# Altium schematic symbol library Audio - Microphones.SchLib: 12 symbols
Pins are listed as number, name and electrical type; pins without a type are passive.

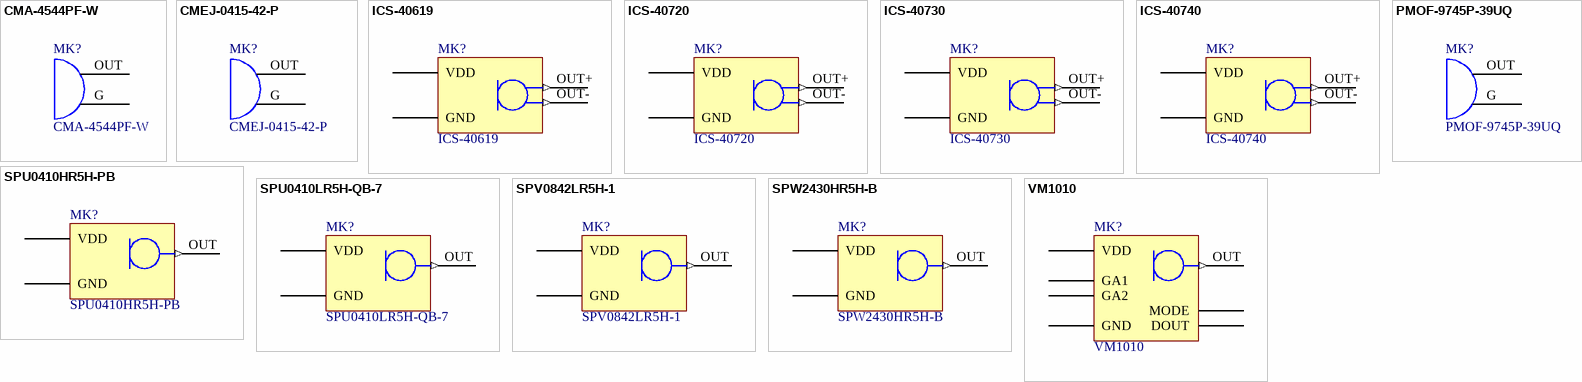
[diagram p0: symbols CMA-4544PF-W to VM1010]

## CMA-4544PF-W
designator MK?
MIC COND ANALOG OMNI -44DB; Manufacturer: CUI Devices; Current - Supply: 500µA; Direction: Omnidirectional; Frequency Range: 20Hz ~ 20kHz; Impedance: 2.2 kOhms; Port Location: Top; Sensitivity: -44dB ±2dB; Shape: Circular; S/N Ratio: 60dB; Voltage Range: 3V ~ 10V; Part Number: CMA-4544PF-W; ComponentLink1Description: Datasheet; ComponentLink1URL: https://www.cuidevices.com/product/resource/digikeypdf/cma-4544pf-w.pdf; ComponentLink2Description: DigiKey Link; ComponentLink2URL: http://digikey.com/product-detail/en/cui-devices/CMA-4544PF-W/102-1721-ND/1869981; Height (Max): 0.183" (4.65mm); LastUpdated: 4/24/2020 12:49:04 AM; Lifecycle Status: Active; Minimum Order: 1; Output Type: Analog; Packaging: Bulk; Part Status: Active; Price: 0.77; Series: -; Size / Dimension: 0.382" Dia (9.70mm); Supplier 1: DigiKey; Supplier Part Number 1: 102-1721-ND; Termination: PC Pins; Type: Electret Condenser
footprint CUI Devices CMA-4544PF-W
pins: G GND, OUT

## CMEJ-0415-42-P
designator MK?
MICROPHONE, 4 MM, ELECTRET CONDE; Manufacturer: CUI Devices; Current - Supply: 500µA; Direction: Omnidirectional; Frequency Range: 100Hz ~ 10kHz; Output Type: Analog; Port Location: Top; Sensitivity: -42dB ±3dB @ 94dB SPL; Shape: Circular; S/N Ratio: 60dB; Voltage - Rated: 2V; Part Number: CMEJ-0415-42-P; ComponentLink1Description: Datasheet; ComponentLink1URL: https://www.cuidevices.com/product/resource/digikeypdf/cmej-0415-42-p.pdf; ComponentLink2Description: DigiKey Link; ComponentLink2URL: http://digikey.com/product-detail/en/cui-devices/CMEJ-0415-42-P/102-6542-ND/10253451; Height (Max): 0.067" (1.70mm); LastUpdated: 4/24/2020 12:49:53 AM; Lifecycle Status: Active; Minimum Order: 1; Packaging: Tray; Part Status: Active; Price: 0.40; Series: CMEJ; Size / Dimension: 0.157" Dia (4.00mm); Supplier 1: DigiKey; Supplier Part Number 1: 102-6542-ND; Termination: PC Pins; Type: Electret Condenser
footprint CUI CMEJ-0415-42-P
pins: G GND, OUT

## ICS-40619
designator MK?
MIC MEMS MULTI-MODE OMNI -38DB; Manufacturer: TDK InvenSense; Current - Supply: 190µA; Direction: Omnidirectional; Frequency Range: 50Hz ~ 20kHz; Output Type: Analog; Port Location: Top; Sensitivity: -38db ±1dB; Shape: Rectangular; S/N Ratio: 67dB; Voltage Range: 1.52V ~ 3.63V; Part Number: ICS-40619; ComponentLink1Description: Datasheet; ComponentLink1URL: https://www.invensense.com/wp-content/uploads/2016/02/ICS-40619-Datasheet.pdf?ref_disty=digikey; ComponentLink2Description: DigiKey Link; ComponentLink2URL: http://digikey.com/product-detail/en/tdk-invensense/ICS-40619/1428-1063-1-ND/6025657; Height (Max): 0.043" (1.10mm); LastUpdated: 4/24/2020 12:45:00 AM; Lifecycle Status: Active; Minimum Order: 1; Packaging: TapeAndReel; Part Status: Active; Price: 0.85; Series: -; Size / Dimension: 0.138" L x 0.104" W (3.50mm x 2.65mm); Supplier 1: DigiKey; Supplier Part Number 1: 1428-1063-1-ND; Termination: Solder Pads; Type: MEMS (Silicon)
footprint TDK ICS-40619
pins: G GND, OUT+ (out), OUT- (out), VDD

## ICS-40720
designator MK?
MICROPHONE MEMS ANALOG OMNI; Manufacturer: TDK InvenSense; Current - Supply: 375µA; Direction: Omnidirectional; Frequency Range: 75Hz ~ 20kHz; Port Location: Bottom; Sensitivity: -38dB ±2dB @ 94dB SPL; Shape: Rectangular; S/N Ratio: 70dB; Voltage Range: 1.5V ~ 3.63V; Part Number: ICS-40720; ComponentLink1Description: Datasheet; ComponentLink1URL: https://www.invensense.com/wp-content/uploads/2015/02/DS-000045-v1.3-ICS-40720.pdf?ref_disty=digikey; ComponentLink2Description: DigiKey Link; ComponentLink2URL: http://digikey.com/product-detail/en/tdk-invensense/ICS-40720/1428-1120-1-ND/6148222; Height (Max): 0.051" (1.30mm); LastUpdated: 4/24/2020 12:44:03 AM; Lifecycle Status: Active; Minimum Order: 1; Output Type: Analog; Packaging: TapeAndReel; Part Status: Active; Price: 1.56; Size / Dimension: 0.157" L x 0.118" W (4.00mm x 3.00mm); Supplier 1: DigiKey; Supplier Part Number 1: 1428-1120-1-ND; Termination: Solder Pads; Type: MEMS (Silicon)
footprint TDK ICS‐40720
pins: G GND, OUT+ (out), OUT- (out), VDD

## ICS-40730
designator MK?
ULTRA-LOW NOISE MICROPHONE WITH; Manufacturer: TDK InvenSense; Current - Supply: 285µA; Direction: Noise Cancelling; Frequency Range: 25Hz ~ 20kHz; Impedance: 750 Ohms; Output Type: Analog; Port Location: Bottom; Sensitivity: -32dB ±2dB @ 124dB SPL; Shape: Rectangular; S/N Ratio: 74dB; Voltage Range: 1.5V ~ 3.63V; Part Number: ICS-40730; ComponentLink1Description: Datasheet; ComponentLink1URL: http://www.invensense.com/wp-content/uploads/2018/12/DS-000139-ICS-40730-v1.0.pdf?ref_disty=digikey; ComponentLink2Description: DigiKey Link; ComponentLink2URL: http://digikey.com/product-detail/en/tdk-invensense/ICS-40730/1428-1141-1-ND/8576081; Height (Max): 0.142" (3.60mm); LastUpdated: 4/24/2020 12:45:53 AM; Lifecycle Status: Active; Minimum Order: 1; Packaging: TapeAndReel; Part Status: Active; Price: 1.76; Series: ICS-40730; Size / Dimension: 0.186" L x 0.148" W (4.72mm x 3.76mm); Supplier 1: DigiKey; Supplier Part Number 1: 1428-1141-1-ND; Termination: Solder Pads; Type: MEMS (Silicon)
footprint TDK ICS-40730
pins: G GND, OUT+ (out), OUT- (out), VDD

## ICS-40740
designator MK?
ULTRA-LOW NOISE MICROPHONE WITH; Manufacturer: TDK InvenSense; Current - Supply: 155µA; Direction: Omnidirectional; Frequency Range: 77Hz ~ 20kHz; Impedance: 355 Ohms; Output Type: Analog; Port Location: Bottom; Sensitivity: -37.5dB ±1dB @ 94dB SPL; Shape: Rectangular; S/N Ratio: 70dB; Voltage Range: 1.5V ~ 3.63V; Part Number: ICS-40740; ComponentLink1Description: Datasheet; ComponentLink1URL: http://www.invensense.com/wp-content/uploads/2019/01/DS-000250-v1.0-ICS-40740.pdf?ref_disty=digikey; ComponentLink2Description: DigiKey Link; ComponentLink2URL: http://digikey.com/product-detail/en/tdk-invensense/ICS-40740/1428-1157-1-ND/10378815; Height (Max): 0.051" (1.30mm); LastUpdated: 4/24/2020 12:46:37 AM; Lifecycle Status: Active; Minimum Order: 1; Packaging: TapeAndReel; Part Status: Active; Price: 1.72; Series: ICS-40740; Size / Dimension: 0.157" L x 0.118" W (4.00mm x 3.00mm); Supplier 1: DigiKey; Supplier Part Number 1: 1428-1157-1-ND; Termination: Solder Pads; Type: MEMS (Silicon)
footprint TDK ICS‐40740
pins: G GND, OUT+ (out), OUT- (out), VDD

## PMOF-9745P-39UQ
designator MK?
MIC MAG ANLG OMNI -39DB 9.7X4.5; Manufacturer: Mallory Sonalert Products Inc.; Current - Supply: 500µA; Direction: Omnidirectional; Frequency Range: 20Hz ~ 16kHz; Impedance: 2.2 kOhms; Output Type: Analog; Port Location: Top; Sensitivity: -39dB ±2dB @ 94dB SPL; Shape: Circular; S/N Ratio: 60dB; Voltage Range: 1.1V ~ 10V; Voltage - Rated: 4.5V; Part Number: PMOF-9745P-39UQ; ComponentLink1Description: Datasheet; ComponentLink1URL: https://www.mspindy.com/Specifications/PMOF-9745P-39UQ.pdf; ComponentLink2Description: DigiKey Link; ComponentLink2URL: http://digikey.com/product-detail/en/mallory-sonalert-products-inc/PMOF-9745P-39UQ/458-1544-ND/6564381; Height (Max): 0.197" (5.00mm); LastUpdated: 4/24/2020 12:50:54 AM; Lifecycle Status: Active; Minimum Order: 1; Packaging: Bulk; Part Status: Active; Price: 0.74; Series: PMOF; Size / Dimension: 0.382" Dia (9.70mm); Supplier 1: DigiKey; Supplier Part Number 1: 458-1544-ND; Termination: PC Pins; Type: Magnetic
footprint Mallory PMOF-9745P-39UQ
pins: G GND, OUT

## SPU0410HR5H-PB
designator MK?
MICROPHONE MEMS ANLG OMNI IOT; Manufacturer: Knowles; Current - Supply: 250µA; Direction: Omnidirectional; Frequency Range: 100Hz ~ 10kHz; Impedance: 300 Ohms; Output Type: Analog; Port Location: Top; Sensitivity: -42dB ±3dB @ 94dB SPL; Shape: Rectangular; S/N Ratio: 59dB; Voltage Range: 1.5V ~ 3.6V; Part Number: SPU0410HR5H-PB; ComponentLink1Description: Datasheet; ComponentLink1URL: //media.digikey.com/pdf/Data%20Sheets/Knowles%20Acoustics%20PDFs/SPU0410HR5H-PB.pdf; ComponentLink2Description: DigiKey Link; ComponentLink2URL: http://digikey.com/product-detail/en/knowles/SPU0410HR5H-PB/423-1138-1-ND/2420982; Height (Max): 0.047" (1.20mm); LastUpdated: 4/24/2020 12:40:19 AM; Lifecycle Status: Active; Minimum Order: 1; Packaging: TapeAndReel; Part Status: Active; Price: 0.47; Series: SiSonic™ SPU; Size / Dimension: 0.148" L x 0.116" W (3.76mm x 2.95mm); Supplier 1: DigiKey; Supplier Part Number 1: 423-1138-1-ND; Termination: Solder Pads; Type: MEMS (Silicon)
footprint KNOWLES SPU0410HR5H-PB
pins: G GND, OUT (out), VDD

## SPU0410LR5H-QB-7
designator MK?
MICROPHONE MEMS ANLG OMNI IOT; Manufacturer: Knowles; Current - Supply: 160µA; Direction: Omnidirectional; Frequency Range: 100Hz ~ 80kHz; Impedance: 400 Ohms; Output Type: Analog; Port Location: Bottom; Sensitivity: -38dB ±3dB @ 94dB SPL; Shape: Rectangular; S/N Ratio: 63dB; Voltage Range: 1.5V ~ 3.6V; Part Number: SPU0410LR5H-QB-7; ComponentLink1Description: Datasheet; ComponentLink1URL: //media.digikey.com/pdf/Data%20Sheets/Knowles%20Acoustics%20PDFs/SPU0410LR5H-QB_RevH_3-27-13.pdf; ComponentLink2Description: DigiKey Link; ComponentLink2URL: http://digikey.com/product-detail/en/knowles/SPU0410LR5H-QB-7/423-1139-1-ND/2420983; Height (Max): 0.047" (1.20mm); LastUpdated: 4/24/2020 12:43:00 AM; Lifecycle Status: Active; Minimum Order: 1; Packaging: TapeAndReel; Part Status: Active; Price: 0.30; Series: SiSonic™ SPU; Size / Dimension: 0.148" L x 0.118" W (3.76mm x 3.00mm); Supplier 1: DigiKey; Supplier Part Number 1: 423-1139-1-ND; Termination: Solder Pads; Type: MEMS (Silicon)
footprint KNOWLES SPU0410LR5H-QB
pins: G GND, OUT (out), VDD

## SPV0842LR5H-1
designator MK?
BOTTOM PORT SISONIC MICROPHONE; Manufacturer: Knowles; Current - Supply: 185µA; Direction: Omnidirectional; Frequency Range: 50Hz ~ 10kHz; Output Type: Analog; Sensitivity: -38dB ±3dB @ 94dB SPL; Shape: Rectangular; S/N Ratio: 62.5dB; Part Number: SPV0842LR5H-1; ComponentLink1Description: Datasheet; ComponentLink1URL: https://www.knowles.com/docs/default-source/model-downloads/spv0842lr5h-1-datasheet-rev-d.pdf; ComponentLink2Description: DigiKey Link; ComponentLink2URL: http://digikey.com/product-detail/en/knowles/SPV0842LR5H-1/423-1429-1-ND/9681722; Height (Max): 0.039" (1.00mm); LastUpdated: 4/24/2020 12:41:40 AM; Lifecycle Status: Active; Minimum Order: 1; Packaging: TapeAndReel; Part Status: Active; Port Location: Bottom; Price: 0.44; Series: SiSonic™; Size / Dimension: 0.108" L x 0.073" W (2.75mm x 1.85mm); Supplier 1: DigiKey; Supplier Part Number 1: 423-1429-1-ND; Termination: Solder Pads; Type: MEMS (Silicon)
footprint KNOWLES SPV0842LR5H-1
pins: G GND, OUT (out), VDD

## SPW2430HR5H-B
designator MK?
MICROPHONE MEMS ANALOG OMNI; Manufacturer: Knowles; Current - Supply: 110µA; Direction: Omnidirectional; Frequency Range: 100Hz ~ 10kHz; Impedance: 450 Ohms; Port Location: Top; Sensitivity: -42dB ±3dB @ 94dB SPL; Shape: Rectangular; S/N Ratio: 59dB; Voltage Range: 1.5V ~ 3.6V; Part Number: SPW2430HR5H-B; ComponentLink1Description: Datasheet; ComponentLink1URL: https://www.knowles.com/docs/default-source/model-downloads/spw2430hr5h-b.pdf; ComponentLink2Description: DigiKey Link; ComponentLink2URL: http://digikey.com/product-detail/en/knowles/SPW2430HR5H-B/423-1394-1-ND/5052772; Height (Max): 0.043" (1.10mm); LastUpdated: 4/24/2020 12:47:33 AM; Lifecycle Status: Active; Minimum Order: 1; Output Type: Analog; Packaging: TapeAndReel; Part Status: Active; Price: 0.32; Series: SiSonic™ SPW; Size / Dimension: 0.122" L x 0.098" W (3.10mm x 2.50mm); Supplier 1: DigiKey; Supplier Part Number 1: 423-1394-1-ND; Termination: Solder Pads; Type: MEMS (Silicon)
footprint KNOWLES SPW2430HR5H-B
pins: G GND, OUT (out), VDD

## VM1010
designator MK?
PIEZOELETRIC MEMS MIC SINGLE-END; Manufacturer: Vesper Technologies Inc.; Current - Supply: 5µA; Direction: Omnidirectional; Frequency Range: 100Hz ~ 10kHz; Output Type: Analog; Port Location: Bottom; Sensitivity: -38dB ±3dB @ 94dB SPL; Shape: Rectangular; S/N Ratio: 60dB; Voltage - Rated: 1.8V; Part Number: VM1010; ComponentLink1Description: Datasheet; ComponentLink1URL: //media.digikey.com/pdf/Data%20Sheets/Vesper%20Tech/VM1010_DS.pdf; ComponentLink2Description: DigiKey Link; ComponentLink2URL: http://digikey.com/product-detail/en/vesper-technologies-inc/VM1010/2022-1001-1-ND/9666002; Height (Max): 0.051" (1.30mm); LastUpdated: 4/24/2020 12:48:24 AM; Lifecycle Status: Active; Minimum Order: 1; Packaging: TapeAndReel; Part Status: Active; Price: 1.11; Series: Vesper; Size / Dimension: 0.148" L x 0.116" W (3.76mm x 2.95mm); Supplier 1: DigiKey; Supplier Part Number 1: 2022-1001-1-ND; Termination: Solder Pads; Type: Piezo MEMS
footprint VESPER TECH VM1010
pins: DOUT, G GND, GA1, GA2, MODE, OUT (out), VDD